# EAGLE library part XR-1071P (library exar)
AUDIO PROCESSOR
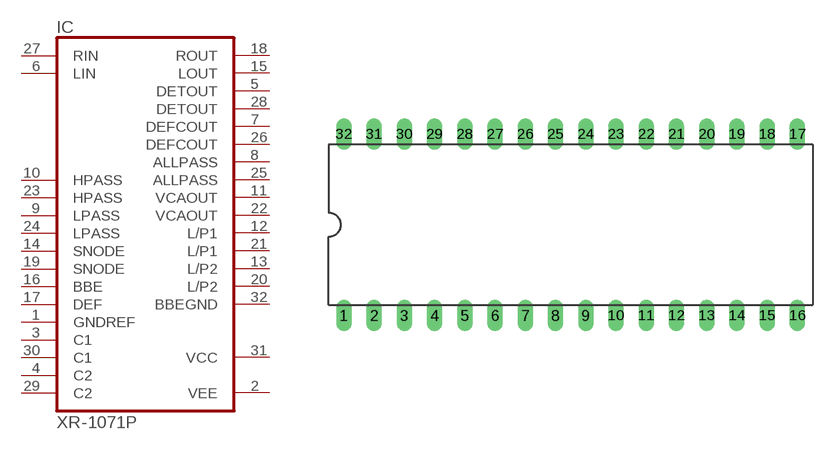
[diagram p107: symbol with the pads of DIL32; footprint DIL32]

Designator prefix IC

## XR-1071P  [DIL32]
1  GNDREF  in
2  VEE  pwr
3  C1  in
4  C2  in
5  DETOUT  out
6  LIN  in
7  DEFCOUT  out
8  ALLPASS  out
9  LPASS  in
10  HPASS  in
11  VCAOUT  out
12  L/P1  out
13  L/P2  out
14  SNODE  in
15  LOUT  out
16  BBE  in
17  DEF  in
18  ROUT  out
19  SNODE  in
20  L/P2  out
21  L/P1  out
22  VCAOUT  out
23  HPASS  in
24  LPASS  in
25  ALLPASS  out
26  DEFCOUT  out
27  RIN  in
28  DETOUT  out
29  C2  in
30  C1  in
31  VCC  pwr
32  BBEGND  out

## Footprint DIL32 (pad centres in mm)
Dual In Line Package
drill 0.813 long: 1 -19.05,-7.62; 2 -16.51,-7.62; 3 -13.97,-7.62; 4 -11.43,-7.62; 5 -8.89,-7.62; 6 -6.35,-7.62; 7 -3.81,-7.62; 8 -1.27,-7.62; 9 1.27,-7.62; 10 3.81,-7.62; 11 6.35,-7.62; 12 8.89,-7.62; 13 11.43,-7.62; 14 13.97,-7.62; 15 16.51,-7.62; 16 19.05,-7.62; 17 19.05,7.62; 18 16.51,7.62; 19 13.97,7.62; 20 11.43,7.62; 21 8.89,7.62; 22 6.35,7.62; 23 3.81,7.62; 24 1.27,7.62; 25 -1.27,7.62; 26 -3.81,7.62; 27 -6.35,7.62; 28 -8.89,7.62; 29 -11.43,7.62; 30 -13.97,7.62; 31 -16.51,7.62; 32 -19.05,7.62